# Altium footprint library WIKA_PCB.PcbLib: 1 footprints
Each footprint in its own frame and in the unit in brackets; x right, y up, seen from the top. Pads: shape width x height; smd on the part's side, far side on the other; paste and mask are expansions set on the pad; w line width, h text height; cw(c..) or ccw(c..) is an arc to the next point about the centre after c.
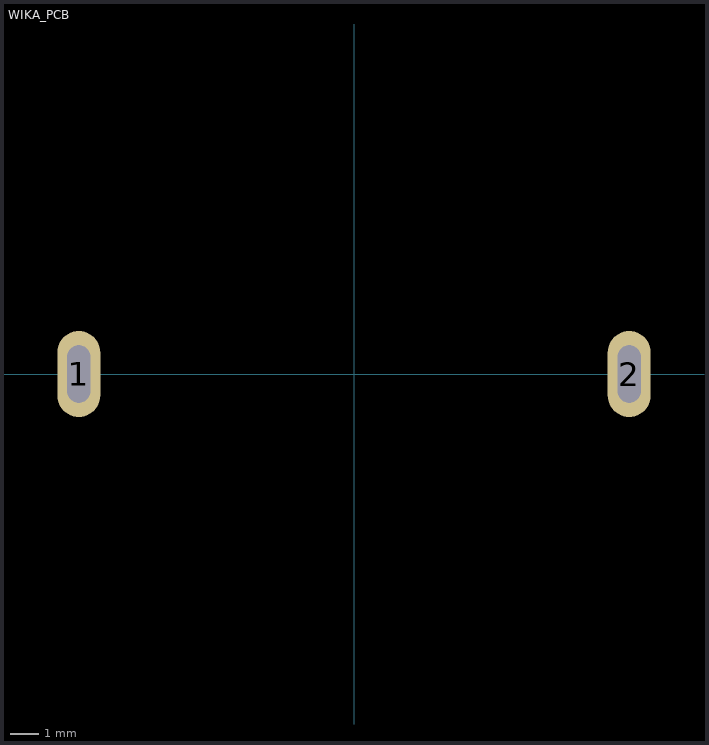
[diagram p0: the footprint, top view; thin cyan lines are the x and y axes]

## WIKA_PCB [mm]
pads (2):
  oval 1.5x3 hole 0.8 slot 2 at 90 deg: 1(-9.6,0) 2(9.6,0)
3D body "Ножевая клемма 18-22.STEP": height 0.01, standoff -11.5, extent -9.957,-3.454 -7.799,3.454
3D body "Ножевая клемма 18-22.STEP": height 0.01, standoff -11.5, extent 7.799,-3.454 9.957,3.454